# Altium integrated library Altium_lib_aguivone_1.0.0.IntLib: 11 symbols
Pins are listed as number, name and electrical type; pins without a type are passive.

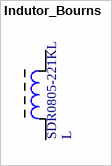
[diagram p0: symbol Indutor_Bourns]

## Indutor_Bourns
designator L, comment SDR0805-221KL
footprint Indutor_bourns
pins: 1, 2


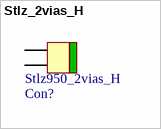
[diagram p1: symbol Stlz_2vias_H]

## Stlz_2vias_H
designator Con?, comment Stlz950_2vias_H
footprint Stlz950_2vias_H
pins: 1, 2


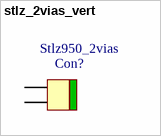
[diagram p2: symbol stlz_2vias_vert]

## stlz_2vias_vert
designator Con?, comment Stlz950_2vias
footprint Stlz950_2vias_V
pins: 1, 2


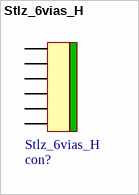
[diagram p3: symbol Stlz_6vias_H]

## Stlz_6vias_H
designator con?
footprint Stlz950_6vias_H (Con)
pins: 1, 2, 3, 4, 5, 6


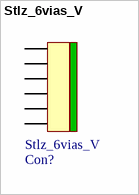
[diagram p4: symbol Stlz_6vias_V]

## Stlz_6vias_V
designator Con?
footprint Stlz950_6_vias_V
pins: 1, 2, 3, 4, 5, 6


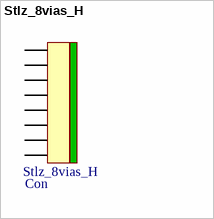
[diagram p5: symbol Stlz_8vias_H]

## Stlz_8vias_H
designator Con
footprint Stlz950_8vias_H
pins: 1, 2, 3, 4, 5, 6, 7, 8


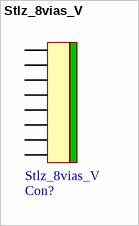
[diagram p6: symbol Stlz_8vias_V]

## Stlz_8vias_V
designator Con?
footprint Stlz950_8vias_V
pins: 1, 2, 3, 4, 5, 6, 7, 8


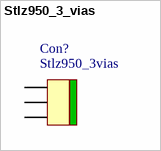
[diagram p7: symbol Stlz950_3_vias]

## Stlz950_3_vias
designator Con?, comment Stlz950_3vias
footprint Stlz950_3vias_V
pins: 1, 2, 3


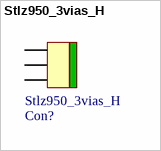
[diagram p8: symbol Stlz950_3vias_H]

## Stlz950_3vias_H
designator Con?
footprint Stlz950_3vias_H (Con)
pins: 1, 2, 3


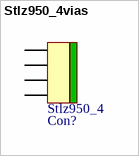
[diagram p9: symbol Stlz950_4vias]

## Stlz950_4vias
designator Con?, comment Stlz950_4
footprint Stlz950_4vias_V
pins: 1, 2, 3, 4


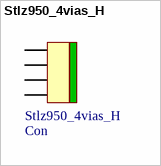
[diagram p10: symbol Stlz950_4vias_H]

## Stlz950_4vias_H
designator Con
footprint Stlz950_4vias_H (Con)
pins: 1, 2, 3, 4